# Altium schematic symbol library Devices.SchLib: 17 symbols
Pins are listed as number, name and electrical type; pins without a type are passive.

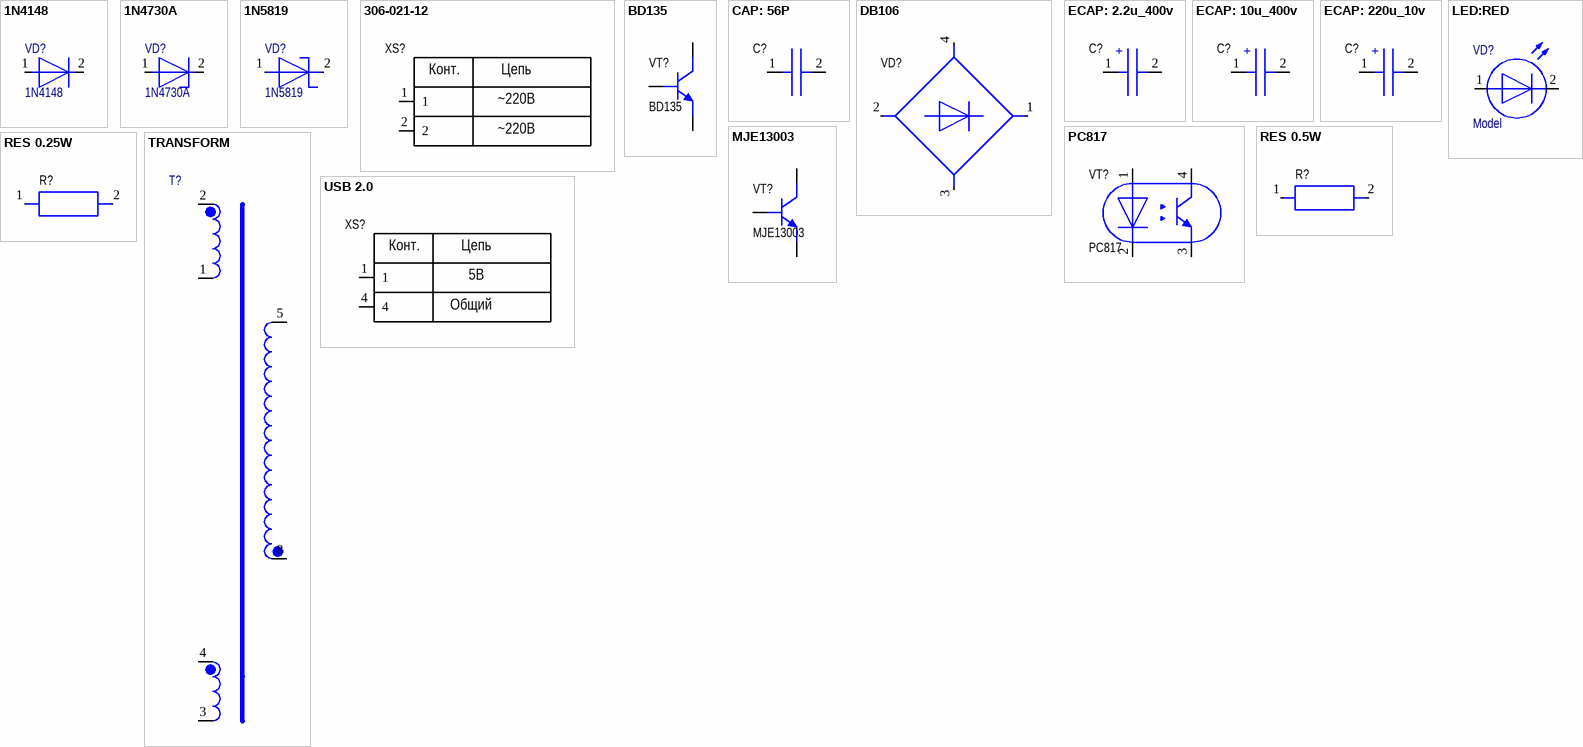
[diagram p0: symbols 1N4148 to USB 2.0]

## 1N4148
designator VD?
footprint DO-35
pins: 1, 2

## 1N4730A
designator VD?
footprint DO-41
pins: 1, 2

## 1N5819
designator VD?
footprint DO-41
pins: 1 3, 2

## 306-021-12
designator XS?  (value not drawn)
ComponentLink1Description: market; ComponentLink1URL: https://www.chipdip.ru/product/306-021-12; ComponentLink2Description: datasheet; ComponentLink2URL: https://static.chipdip.ru/lib/064/DOC000064100.pdf
footprint KLS2-306-021-12 - duplicate
pins: 1, 2
text: Конт.; Цепь; ~220B

## BD135
designator VT?
ComponentLink1Description: market; ComponentLink1URL: https://www.chipdip.ru/product/bd135; ComponentLink2Description: datasheet; ComponentLink2URL: https://static.chipdip.ru/lib/011/DOC001011692.pdf
footprint TO-126 / SOT-32
pins: 1 B, 2 C, 3 E

## CAP: 56P
designator C?, comment ECAP: 56P_50v  (value not drawn)
ComponentLink1Description: market; ComponentLink1URL: https://www.chipdip.ru/product0/48477; ComponentLink2Description: datasheet; ComponentLink2URL: https://static.chipdip.ru/lib/056/DOC000056282.pdf
footprint CAP: 3x4 (3x4x5)
pins: 1, 2

## DB106
designator VD?  (value not drawn)
ComponentLink1Description: market; ComponentLink1URL: https://www.chipdip.ru/product/df08m; ComponentLink2Description: datasheet; ComponentLink2URL: https://static.chipdip.ru/lib/151/DOC000151037.pdf
footprint DFM
pins: 1, 2, 3, 4

## ECAP: 2.2u_400v
designator C?, comment 2.2u_400v  (value not drawn)
ComponentLink1Description: market; ComponentLink1URL: https://www.chipdip.ru/product0/708508021; ComponentLink2Description: datasheet; ComponentLink2URL: https://static.chipdip.ru/lib/235/DOC000235479.pdf
footprint ECAP: 10x12
pins: 1, 2
text: +

## ECAP: 10u_400v
designator C?, comment 10u_400v  (value not drawn)
ComponentLink1Description: market; ComponentLink1URL: https://www.chipdip.ru/product0/22832; ComponentLink2Description: datasheet; ComponentLink2URL: https://static.chipdip.ru/lib/235/DOC000235479.pdf
footprint ECAP: 10x20 (10x20x5)
pins: 1, 2
text: +

## ECAP: 220u_10v
designator C?, comment 220u_10v  (value not drawn)
ComponentLink1Description: market; ComponentLink1URL: https://www.chipdip.ru/product0/9000274034; ComponentLink2Description: datasheet; ComponentLink2URL: https://static.chipdip.ru/lib/235/DOC000235479.pdf
footprint ECAP: 6x11 (6x11x2.5)
pins: 1, 2
text: +

## LED:RED
designator VD?, comment Model
ComponentLink1Description: market; ComponentLink1URL: https://www.chipdip.ru/product/gnl-3012hd; ComponentLink2Description: datasheet; ComponentLink2URL: https://static.chipdip.ru/lib/773/DOC002773602.pdf
footprint LED: RED
pins: 1, 2

## MJE13003
designator VT?
ComponentLink1Description: market; ComponentLink1URL: https://www.chipdip.ru/product/mje13003-st13003; ComponentLink3Description: datasheet; ComponentLink3URL: https://static.chipdip.ru/lib/204/DOC000204730.pdf
footprint TO-126 / SOT-32
pins: 1 B, 2 C, 3 E

## PC817
designator VT?
ComponentLink1Description: market; ComponentLink1URL: https://www.chipdip.ru/product/fod817b; ComponentLink2Description: datasheet; ComponentLink2URL: https://static.chipdip.ru/lib/297/DOC000297284.pdf
footprint DFM
pins: 1 Anode, 2 Cathode, 3, 4

## RES 0.5W
designator R?, comment RES 2W_1Ohm  (value not drawn)
ComponentLink1Description: market; ComponentLink1URL: https://www.chipdip.ru/product0/24035; ComponentLink2Description: datasheet; ComponentLink2URL: https://static.chipdip.ru/lib/055/DOC000055622.pdf
footprint RES: 0.5W
pins: 1, 2 8

## RES 0.25W
designator R?, comment RES 0.25W_1Mohm  (value not drawn)
ComponentLink1Description: market; ComponentLink1URL: https://www.chipdip.ru/product0/51741; ComponentLink2Description: datasheet; ComponentLink2URL: https://static.chipdip.ru/lib/056/DOC000056035.pdf
footprint RES: 0.25W
pins: 1, 2 8

## TRANSFORM
designator T?, comment 200x15x7  (value not drawn)
footprint TSD-0816
pins: 1, 2, 3, 4, 5, 8

## USB 2.0
designator XS?  (value not drawn)
ComponentLink1Description: market; ComponentLink1URL: https://yandex.ru/search/?clid=2285101&text=USBA-1J%20%D1%83%D0%B3%D0%BE%20%D0%B3%D0%BE%D1%81%D1%82&lr=213; ComponentLink2Description: datasheet; ComponentLink2URL: https://static.chipdip.ru/lib/063/DOC000063868.pdf
footprint USB 2.0
pins: 1, 4
text: Конт.; Цепь; 5B; Общий